# EAGLE library part SERVO-14 (library connector)
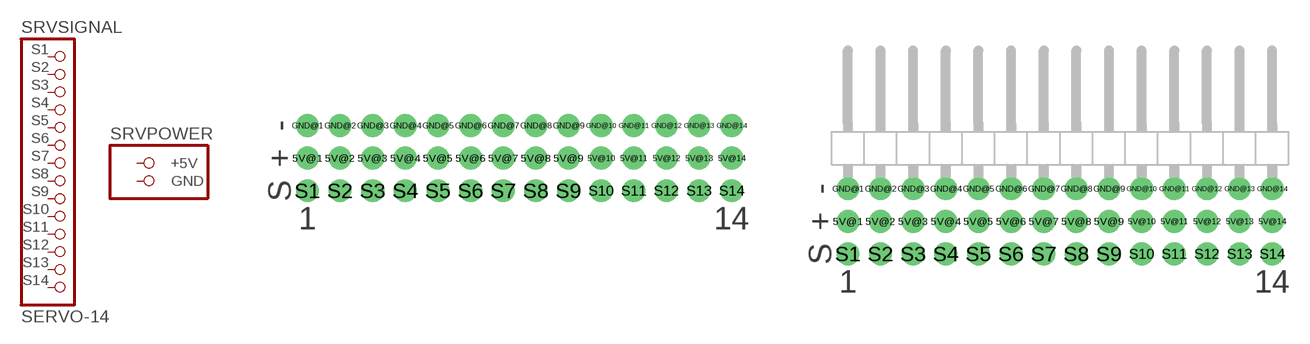
[diagram p9: symbol with the pads of SERVO-14; footprints SERVO-14, SERVO-14/90]

Designator prefix SRV; gates SIGNAL=HEADER-14POS POWER=PWR5V

## SERVO-14  [SERVO-14]
5V@1  POWER:+5V  pwr
5V@2  POWER:+5V  pwr
5V@3  POWER:+5V  pwr
5V@4  POWER:+5V  pwr
5V@5  POWER:+5V  pwr
5V@6  POWER:+5V  pwr
5V@7  POWER:+5V  pwr
5V@8  POWER:+5V  pwr
5V@9  POWER:+5V  pwr
5V@10  POWER:+5V  pwr
5V@11  POWER:+5V  pwr
5V@12  POWER:+5V  pwr
5V@13  POWER:+5V  pwr
5V@14  POWER:+5V  pwr
GND@1  POWER:GND  pwr
GND@2  POWER:GND  pwr
GND@3  POWER:GND  pwr
GND@4  POWER:GND  pwr
GND@5  POWER:GND  pwr
GND@6  POWER:GND  pwr
GND@7  POWER:GND  pwr
GND@8  POWER:GND  pwr
GND@9  POWER:GND  pwr
GND@10  POWER:GND  pwr
GND@11  POWER:GND  pwr
GND@12  POWER:GND  pwr
GND@13  POWER:GND  pwr
GND@14  POWER:GND  pwr
S1  SIGNAL:P$1
S2  SIGNAL:P$2
S3  SIGNAL:P$3
S4  SIGNAL:P$4
S5  SIGNAL:P$5
S6  SIGNAL:P$6
S7  SIGNAL:P$7
S8  SIGNAL:P$8
S9  SIGNAL:P$9
S10  SIGNAL:P$10
S11  SIGNAL:P$11
S12  SIGNAL:P$12
S13  SIGNAL:P$13
S14  SIGNAL:P$14

## SERVO-14/90  [SERVO-14/90]
Pads as for SERVO-14

## Footprint SERVO-14 (pad centres in mm)
drill 1 pad 1.778: 5V@1 -17.78,0; 5V@2 -15.24,0; 5V@3 -12.7,0; 5V@4 -10.16,0; 5V@5 -7.62,0; 5V@6 -5.08,0; 5V@7 -2.54,0; 5V@8 0,0; 5V@9 2.54,0; 5V@10 5.08,0; 5V@11 7.62,0; 5V@12 10.16,0; 5V@13 12.7,0; 5V@14 15.24,0; GND@1 -17.78,2.54; GND@2 -15.24,2.54; GND@3 -12.7,2.54; GND@4 -10.16,2.54; GND@5 -7.62,2.54; GND@6 -5.08,2.54; GND@7 -2.54,2.54; GND@8 0,2.54; GND@9 2.54,2.54; GND@10 5.08,2.54; GND@11 7.62,2.54; GND@12 10.16,2.54; GND@13 12.7,2.54; GND@14 15.24,2.54; S1 -17.78,-2.54; S2 -15.24,-2.54; S3 -12.7,-2.54; S4 -10.16,-2.54; S5 -7.62,-2.54; S6 -5.08,-2.54; S7 -2.54,-2.54; S8 0,-2.54; S9 2.54,-2.54; S10 5.08,-2.54; S11 7.62,-2.54; S12 10.16,-2.54; S13 12.7,-2.54; S14 15.24,-2.54

## Footprint SERVO-14/90 (pad centres in mm)
drill 1 pad 1.778: 5V@1 -17.78,0; 5V@2 -15.24,0; 5V@3 -12.7,0; 5V@4 -10.16,0; 5V@5 -7.62,0; 5V@6 -5.08,0; 5V@7 -2.54,0; 5V@8 0,0; 5V@9 2.54,0; 5V@10 5.08,0; 5V@11 7.62,0; 5V@12 10.16,0; 5V@13 12.7,0; 5V@14 15.24,0; GND@1 -17.78,2.54; GND@2 -15.24,2.54; GND@3 -12.7,2.54; GND@4 -10.16,2.54; GND@5 -7.62,2.54; GND@6 -5.08,2.54; GND@7 -2.54,2.54; GND@8 0,2.54; GND@9 2.54,2.54; GND@10 5.08,2.54; GND@11 7.62,2.54; GND@12 10.16,2.54; GND@13 12.7,2.54; GND@14 15.24,2.54; S1 -17.78,-2.54; S2 -15.24,-2.54; S3 -12.7,-2.54; S4 -10.16,-2.54; S5 -7.62,-2.54; S6 -5.08,-2.54; S7 -2.54,-2.54; S8 0,-2.54; S9 2.54,-2.54; S10 5.08,-2.54; S11 7.62,-2.54; S12 10.16,-2.54; S13 12.7,-2.54; S14 15.24,-2.54